# Altium integrated library Battery.IntLib: 12 symbols
Pins are listed as number, name and electrical type; pins without a type are passive.

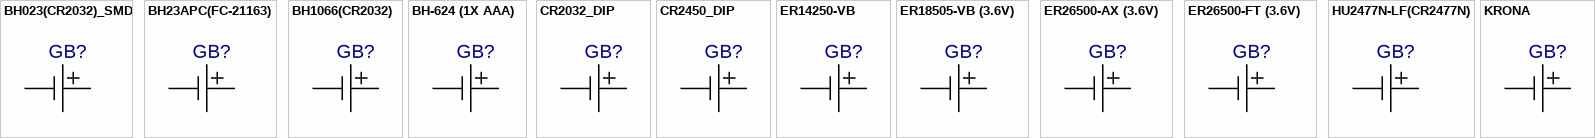
[diagram p0: symbols BH023(CR2032)_SMD to KRONA]

## BH023(CR2032)_SMD
designator GB?  (value not drawn)
Author: pcbdesigner.ru; Value: *
footprint BH023(CR2032)_SMD
pins: 1, 2

## BH23APC(FC-21163)
designator GB?  (value not drawn)
Author: pcbdesigner.ru; Value: *
footprint BH23APC(FC-21163)
pins: 1 2, 2 1

## BH1066(CR2032)
designator GB?  (value not drawn)
Author: pcbdesigner.ru; Value: *
footprint BH1066(CR2032)_BH1066(CR2032)(Primary)
pins: minus_bot 1, plus_top 2

## BH-624 (1X AAA)
designator GB?  (value not drawn)
Author: pcbdesigner.ru; Value: *
footprint BH-624 (1X AAA)
pins: 1, 2

## CR2032_DIP
designator GB?  (value not drawn)
Author: pcbdesigner.ru; Value: *
footprint CR2032_DIP_CR2032_DIP(Primary)
pins: minus 1, plus 2

## CR2450_DIP
designator GB?  (value not drawn)
Author: pcbdesigner.ru; Value: *
footprint CR2450_DIP_CR2450_DIP(Primary)
pins: minus 1, plus1 2, plus2 hidden

## ER14250-VB
designator GB?  (value not drawn)
Author: pcbdesigner.ru; Value: *
footprint ER14250-VB
pins: 1 2, 2 1, 3 hidden

## ER18505-VB (3.6V)
designator GB?  (value not drawn)
Author: pcbdesigner.ru; Value: *
footprint ER18505-VB (3.6V)
pins: 1, 2, 3 hidden

## ER26500-AX (3.6V)
designator GB?  (value not drawn)
Author: pcbdesigner.ru; Value: *
footprint ER26500-AX (3.6V)
pins: 1, 2

## ER26500-FT (3.6V)
designator GB?  (value not drawn)
Author: pcbdesigner.ru; Value: *
footprint ER26500-FT (3.6V)
pins: 1, 2

## HU2477N-LF(CR2477N)
designator GB?  (value not drawn)
Author: pcbdesigner.ru; Value: *
footprint HU2477N-LF
pins: 1 2, 2 hidden, 3 1

## KRONA
designator GB?  (value not drawn)
Author: pcbdesigner.ru; Value: *
footprint KRONA_KRONA(Primary)
pins: 1 hidden, 2 hidden, minus 1, plus 2